# Altium footprint library Power_9812282.PcbLib: 18 footprints (part 2 of 2)
Each footprint in its own frame and in the unit in brackets; x right, y up, seen from the top. Pads: shape width x height; smd on the part's side, far side on the other; paste and mask are expansions set on the pad; w line width, h text height; cw(c..) or ccw(c..) is an arc to the next point about the centre after c.
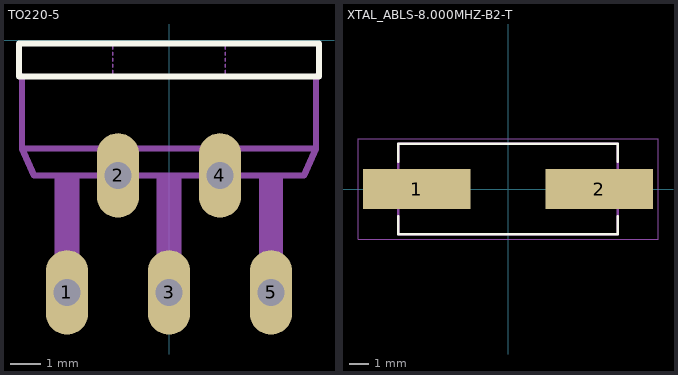
[diagram p1: the footprints below, top view; thin cyan lines are the x and y axes]

## TO220-5 [mm]
pads (5):
  oval 1.408x2.816 hole 0.9: 1(-3.4,-8.4) 2(-1.7,-4.5) 3(0,-8.4) 4(1.7,-4.5) 5(3.4,-8.4)
Top Overlay:
  lines w0.203: -5,-1.2 -5,-0.1 5,-0.1 5,-1.2 -5,-1.2
Mechanical 13:
  region: -3,-8.612 -3.806,-8.612 -3.806,-7.5 -3,-7.5
  region: 0.4,-8.604 -0.4,-8.604 -0.4,-7.5 0.4,-7.5
  region: 3.8,-8.61 3.003,-8.61 3.003,-7.5 3.8,-7.5
  region: -3,-7.51 -3.805,-7.51 -3.805,-4.5 -3,-4.5
  region: 0.4,-7.507 -0.4,-7.507 -0.4,-4.5 0.4,-4.5
  region: 3.8,-7.504 3.002,-7.504 3.002,-4.5 3.8,-4.5
  region: -1.3,-4.703 -2.101,-4.703 -2.101,-4.5 -1.3,-4.5
  region: 2.1,-4.707 1.302,-4.707 1.302,-4.5 2.1,-4.5
  lines w0.051: -1.87,-1.17 -1.87,-1 ; -1.87,-0.9 -1.87,-0.8 ; -1.87,-0.7 -1.87,-0.6 ; -1.87,-0.5 -1.87,-0.4 ; -1.87,-0.3 -1.87,-0.2 ; 1.87,-1.17 1.87,-1 ; 1.87,-0.9 1.87,-0.8 ; 1.87,-0.7 1.87,-0.6 ; 1.87,-0.5 1.87,-0.4 ; 1.87,-0.3 1.87,-0.2
  lines w0.203: -4.9,-1.2 -4.9,-3.6 ; 4.9,-1.2 4.9,-3.6 ; -4.9,-3.6 -4.5,-4.5 4.5,-4.5 4.9,-3.6 ; -4.9,-3.6 4.9,-3.6

## XTAL_ABLS-8.000MHZ-B2-T [mm]
pads (2):
  rect 5.6x2.1 smd: 1(-4.75,0) 2(4.75,0)
Top Overlay:
  lines w0.127: -5.7,-1.42 -5.7,-2.35 5.7,-2.35 5.7,-1.42 ; -5.7,1.42 -5.7,2.35 5.7,2.35 5.7,1.42
Mechanical 13:
  lines w0.127: -5.7,-2.35 -5.7,2.35 5.7,2.35 5.7,-2.35 -5.7,-2.35
Mechanical 15:
  lines w0.05: -7.8,-2.6 -7.8,2.6 7.8,2.6 7.8,-2.6 -7.8,-2.6